# Altium footprint library PCB-Relay-Board-V1.PcbLib: 26 footprints (part 2 of 2)
Each footprint in its own frame and in the unit in brackets; x right, y up, seen from the top. Pads: shape width x height; smd on the part's side, far side on the other; paste and mask are expansions set on the pad; w line width, h text height; cw(c..) or ccw(c..) is an arc to the next point about the centre after c.
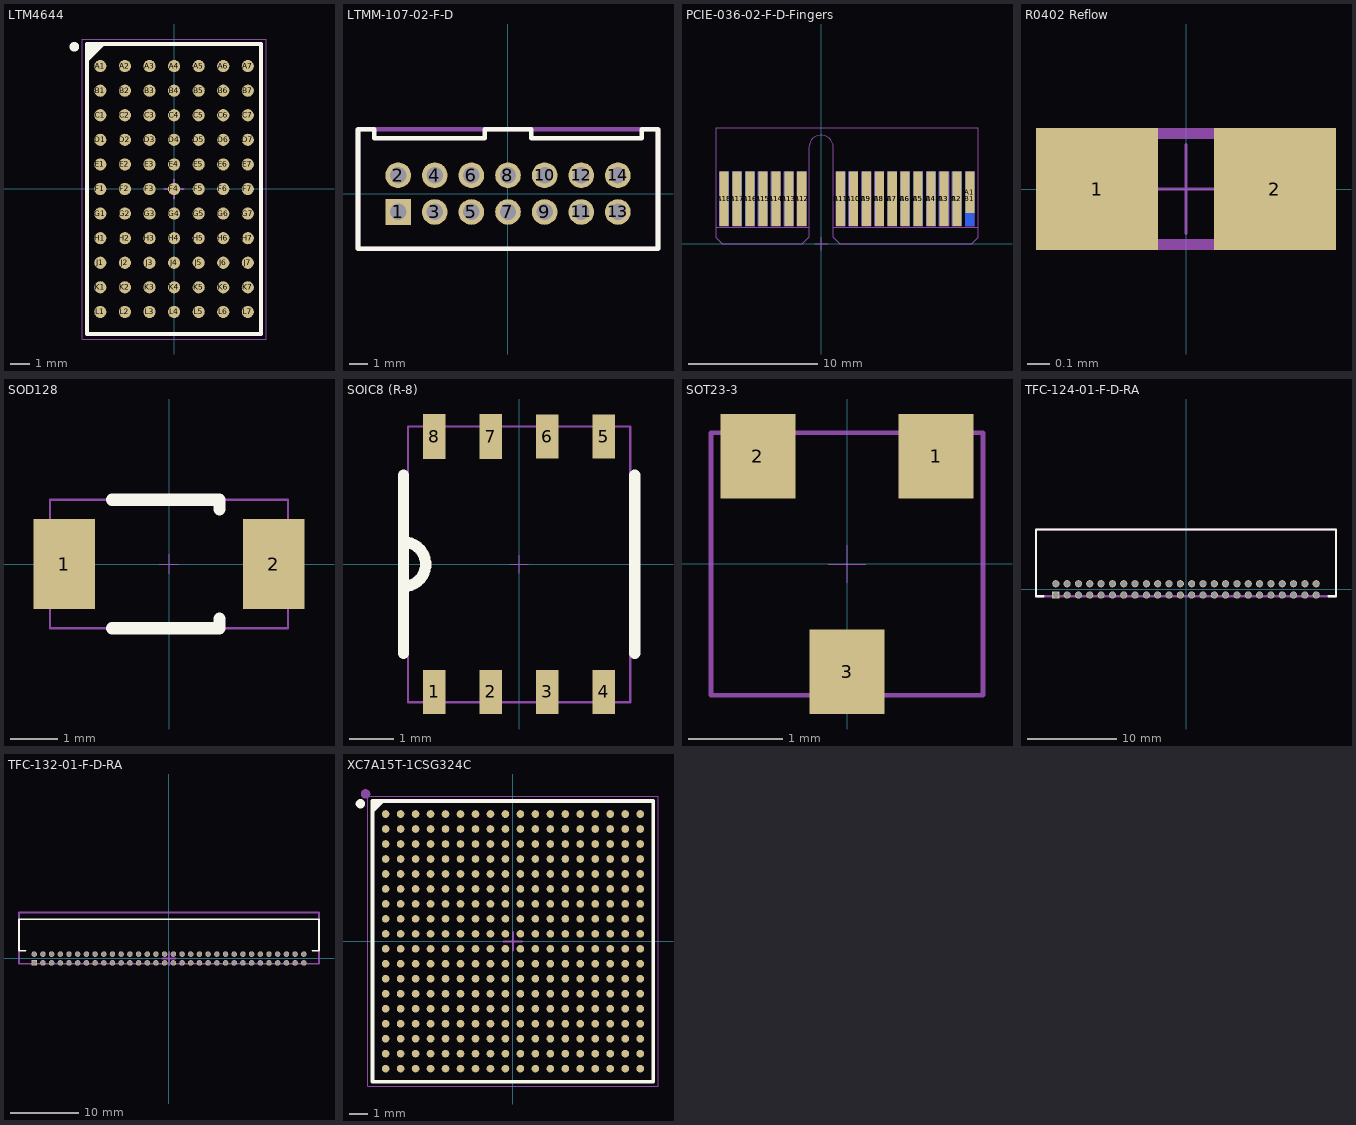
[diagram p1: the footprints below, top view; thin cyan lines are the x and y axes]

## LTM4644 [mm]
height 5.21
pads (77):
  round 0.63 smd: A1(-3.81,6.35) A2(-2.54,6.35) A3(-1.27,6.35) A4(0,6.35) A5(1.27,6.35) A6(2.54,6.35) A7(3.81,6.35) B1(-3.81,5.08) B2(-2.54,5.08) B3(-1.27,5.08) B4(0,5.08) B5(1.27,5.08) B6(2.54,5.08) B7(3.81,5.08) C1(-3.81,3.81) C2(-2.54,3.81) C3(-1.27,3.81) C4(0,3.81) C5(1.27,3.81) C6(2.54,3.81) C7(3.81,3.81) D1(-3.81,2.54) D2(-2.54,2.54) D3(-1.27,2.54) D4(0,2.54) D5(1.27,2.54) D6(2.54,2.54) D7(3.81,2.54) E1(-3.81,1.27) E2(-2.54,1.27) E3(-1.27,1.27) E4(0,1.27) E5(1.27,1.27) E6(2.54,1.27) E7(3.81,1.27) F1(-3.81,0) F2(-2.54,0) F3(-1.27,0) F4(0,0) F5(1.27,0) F6(2.54,0) F7(3.81,0) G1(-3.81,-1.27) G2(-2.54,-1.27) G3(-1.27,-1.27) G4(0,-1.27) G5(1.27,-1.27) G6(2.54,-1.27) G7(3.81,-1.27) H1(-3.81,-2.54) H2(-2.54,-2.54) H3(-1.27,-2.54) H4(0,-2.54) H5(1.27,-2.54) H6(2.54,-2.54) H7(3.81,-2.54) J1(-3.81,-3.81) J2(-2.54,-3.81) J3(-1.27,-3.81) J4(0,-3.81) J5(1.27,-3.81) J6(2.54,-3.81) J7(3.81,-3.81) K1(-3.81,-5.08) K2(-2.54,-5.08) K3(-1.27,-5.08) K4(0,-5.08) K5(1.27,-5.08) K6(2.54,-5.08) K7(3.81,-5.08) L1(-3.81,-6.35) L2(-2.54,-6.35) L3(-1.27,-6.35) L4(0,-6.35) L5(1.27,-6.35) L6(2.54,-6.35) L7(3.81,-6.35)
Top Overlay:
  circle w0.25: c-5.15,7.35 r0.125
  region: -3.671,7.5 -4.5,6.671 -4.5,7.5
  lines w0.2: -4.5,6.671 -3.671,7.5 ; -4.5,-7.5 4.5,-7.5 4.5,7.5 -4.5,7.5 -4.5,-7.5
Top Courtyard:
  lines w0.05: -4.75,-7.75 4.75,-7.75 4.75,7.75 -4.75,7.75 -4.75,-7.75
Top Component Outline:
  lines w0.1: -4.5,-7.5 -4.5,7.5 4.5,7.5 4.5,-7.5 -4.5,-7.5
Mechanical 17:
  lines w0.1: -0.5,0 0.5,0 ; 0,-0.5 0,0.5
3D body "LTM4644.STEP": height 5.11, standoff 0, extent -4.5,-7.5 4.5,7.5

## LTMM-107-02-F-D [mm] "CONN HEADER VERT 14POS 2MM (Xilinx JTAG)"
pads (14):
  rect 1.4x1.4 hole 0.9 paste+0: 1(-6,-1)
  round 1.4 hole 0.9 paste+0: 2(-6,1) 3(-4,-1) 4(-4,1) 5(-2,-1) 6(-2,1) 7(0,-1) 8(0,1) 9(2,-1) 10(2,1) 11(4,-1) 12(4,1) 13(6,-1) 14(6,1)
Top Overlay:
  lines w0.254: -8.191,-3.015 -8.191,3.523 -7.3,3.523 -7.3,3.023 -1.27,3.023 -1.27,3.523 1.27,3.523 1.27,3.023 7.3,3.023 7.3,3.523 8.191,3.523 8.191,-3.015 -8.191,-3.015
Top Courtyard:
  lines w0.254: -8.191,-3.015 -8.191,3.523 8.191,3.523 8.191,-3.015 -8.191,-3.015
3D body "LTMM-107-02-F-D.STEP": height 4.83, standoff -2.97, extent -8.191,-3.015 8.191,3.523

## PCIE-036-02-F-D-Fingers [mm] "PCB contacts for PCIE-036-02-F-D-TH"
pads (36):
  rect 0.7x3.2 smd paste-2: A1(11.5,4)
  rect 0.7x4.2 smd paste-2: A2(10.5,3.5) A3(9.5,3.5) A4(8.5,3.5) A5(7.5,3.5) A6(6.5,3.5) A7(5.5,3.5) A8(4.5,3.5) A9(3.5,3.5) A10(2.5,3.5) A11(1.5,3.5) A12(-1.5,3.5) A13(-2.5,3.5) A14(-3.5,3.5) A15(-4.5,3.5) A16(-5.5,3.5) A17(-6.5,3.5) A18(-7.5,3.5)
  rect 0.7x4.2 smd far side paste-2: B1(11.5,3.5) B2(10.5,3.5) B3(9.5,3.5) B4(8.5,3.5) B5(7.5,3.5) B6(6.5,3.5) B7(5.5,3.5) B8(4.5,3.5) B9(3.5,3.5) B10(2.5,3.5) B11(1.5,3.5) B12(-1.5,3.5) B13(-2.5,3.5) B14(-3.5,3.5) B15(-4.5,3.5) B16(-5.5,3.5) B17(-6.5,3.5) B18(-7.5,3.5)
Mechanical 17:
  lines w0.013: -8.15,1.3 -0.95,1.3 ; -0.5,0 0.5,0 ; 0,-0.5 0,0.5 ; 0.95,1.3 12.15,1.3 ; -8.15,0.5 -7.65,0 -1.45,0 -0.95,0.5 -0.95,7.46 cw(c0,7.46) 0.95,7.46 0.95,0.5 1.45,0 11.65,0 12.15,0.5 12.15,9 -8.15,9 -8.15,0.5 ; -7.85,1.4 -7.15,1.4 -7.15,5.6 -7.85,5.6 -7.85,1.4 ; -6.85,1.4 -6.15,1.4 -6.15,5.6 -6.85,5.6 -6.85,1.4 ; -5.85,1.4 -5.15,1.4 -5.15,5.6 -5.85,5.6 -5.85,1.4 ; -4.85,1.4 -4.15,1.4 -4.15,5.6 -4.85,5.6 -4.85,1.4 ; -3.85,1.4 -3.15,1.4 -3.15,5.6 -3.85,5.6 -3.85,1.4 ; -2.85,1.4 -2.15,1.4 -2.15,5.6 -2.85,5.6 -2.85,1.4 ; -1.85,1.4 -1.15,1.4 -1.15,5.6 -1.85,5.6 -1.85,1.4 ; 1.15,1.4 1.15,5.6 1.85,5.6 1.85,1.4 1.15,1.4 ; 2.15,1.4 2.85,1.4 2.85,5.6 2.15,5.6 2.15,1.4 ; 3.15,1.4 3.85,1.4 3.85,5.6 3.15,5.6 3.15,1.4 ; 4.15,1.4 4.85,1.4 4.85,5.6 4.15,5.6 4.15,1.4 ; 5.15,1.4 5.85,1.4 5.85,5.6 5.15,5.6 5.15,1.4 ; 6.15,1.4 6.85,1.4 6.85,5.6 6.15,5.6 6.15,1.4 ; 7.15,1.4 7.85,1.4 7.85,5.6 7.15,5.6 7.15,1.4 ; 8.15,1.4 8.85,1.4 8.85,5.6 8.15,5.6 8.15,1.4 ; 9.15,1.4 9.85,1.4 9.85,5.6 9.15,5.6 9.15,1.4 ; 10.15,1.4 10.85,1.4 10.85,5.6 10.15,5.6 10.15,1.4 ; 11.15,1.4 11.85,1.4 11.85,5.6 11.15,5.6 11.15,1.4

## R0402 Reflow [mm] "SMT Resistor 0402 Reflow Soldering"
pads (2):
  rect 0.55x0.55 smd: 1(-0.4,0) 2(0.4,0)
Top Solder:
  rectangle: -0.3,-0.377 0.3,0.377
Top Courtyard:
  lines w0.05: -0.5,-0.25 -0.5,0.25 0.5,0.25 0.5,-0.25 -0.5,-0.25
Mechanical 17:
  lines w0.013: -0.2,0 0.2,0 ; 0,-0.2 0,0.2
3D body "R0402.STEP": height 0.35, standoff 0, extent -0.5,-0.25 0.5,0.25

## SOD128 [mm] "PMEG4050EP,115"
pads (2):
  rect 1.3x1.9 smd: 1(-2.2,0) 2(2.2,0)
Top Overlay:
  lines w0.254: -1.2,-1.35 1.06,-1.35 1.06,-1.15 ; -1.2,1.35 1.06,1.35 1.06,1.15
Top Courtyard:
  lines w0.05: -2.5,-1.35 2.5,-1.35 2.5,1.35 -2.5,1.35 -2.5,-1.35
Mechanical 17:
  lines w0.013: -0.2,0 0.2,0 ; 0,-0.2 0,0.2
3D body "Schottky_Diode_SOD128.step": height 1.1, standoff -0.01, extent -2.5,-1.35 2.5,1.35

## SOIC8 (R-8) [mil] "Generic 8 lead SOIC Narrow Body"
height 69
pads (8):
  rect 20x39 smd: 1(-75,-113) 2(-25,-113) 3(25,-113) 4(75,-113) 5(75,113) 6(25,113)
  rect 20x40 smd: 7(-25,113) 8(-75,113)
Top Overlay:
  lines w10: -102.36,-78.74 -102.36,78.74 ; -102.36,-19.68 ccw(c-102.36,0) -102.36,19.68 ; 102.36,-78.74 102.36,78.74
Top Courtyard:
  lines w1.97: -98.42,-122.04 98.43,-122.04 98.43,122.06 -98.42,122.06 -98.42,-122.04
Mechanical 17:
  lines w0.51: -7.87,0 7.87,0 ; 0,-7.87 0,7.87
3D body "SOIC8N.step": height 68.9, standoff 0, extent -98.42,-122.04 98.43,122.06

## SOT23-3 [mm]
pads (3):
  rect 0.8x0.9 smd mask+0.1: 1(0.95,1.15) 2(-0.95,1.15) 3(0,-1.15)
Top Courtyard:
  lines w0.05: -1.45,-1.4 1.45,-1.4 1.45,1.4 -1.45,1.4 -1.45,-1.4
Mechanical 17:
  lines w0.013: -0.2,0 0.2,0 ; 0,-0.2 0,0.2
3D body "SOT23-3.step": height 1.3, standoff 0, extent -1.45,-1.4 1.45,1.4

## TFC-124-01-F-D-RA [mm] "48 pin box header right angled"
pads (48):
  rect 0.8x0.8 hole 0.635 paste+0: 1(-14.605,-0.635)
  round 0.8 hole 0.635 paste+0: 2(-14.605,0.635) 3(-13.335,-0.635) 4(-13.335,0.635) 5(-12.065,-0.635) 6(-12.065,0.635) 7(-10.795,-0.635) 8(-10.795,0.635) 9(-9.525,-0.635) 10(-9.525,0.635) 11(-8.255,-0.635) 12(-8.255,0.635) 13(-6.985,-0.635) 14(-6.985,0.635) 15(-5.715,-0.635) 16(-5.715,0.635) 17(-4.445,-0.635) 18(-4.445,0.635) 19(-3.175,-0.635) 20(-3.175,0.635) 21(-1.905,-0.635) 22(-1.905,0.635) 23(-0.635,-0.635) 24(-0.635,0.635) 25(0.635,-0.635) 26(0.635,0.635) 27(1.905,-0.635) 28(1.905,0.635) 29(3.175,-0.635) 30(3.175,0.635) 31(4.445,-0.635) 32(4.445,0.635) 33(5.715,-0.635) 34(5.715,0.635) 35(6.985,-0.635) 36(6.985,0.635) 37(8.255,-0.635) 38(8.255,0.635) 39(9.525,-0.635) 40(9.525,0.635) 41(10.795,-0.635) 42(10.795,0.635) 43(12.065,-0.635) 44(12.065,0.635) 45(13.335,-0.635) 46(13.335,0.635) 47(14.605,-0.635) 48(14.605,0.635)
Top Overlay:
  lines w0.254: -16,-0.762 -16.827,-0.762 -16.827,6.731 16.827,6.731 16.827,-0.762 16,-0.762
Top Courtyard:
  lines w0.254: -16.827,-0.762 16.827,-0.762 16.827,6.731 -16.827,6.731 -16.827,-0.762
3D body "TFC-124-01-F-D-RA.STEP": height 5.71, standoff -1.91, extent -16.827,-0.762 16.827,6.731

## TFC-132-01-F-D-RA [mm] "64 pin box header right angled"
pads (64):
  rect 0.8x0.8 hole 0.635 paste+0: 1(-19.685,-0.635)
  round 0.8 hole 0.635 paste+0: 2(-19.685,0.635) 3(-18.415,-0.635) 4(-18.415,0.635) 5(-17.145,-0.635) 6(-17.145,0.635) 7(-15.875,-0.635) 8(-15.875,0.635) 9(-14.605,-0.635) 10(-14.605,0.635) 11(-13.335,-0.635) 12(-13.335,0.635) 13(-12.065,-0.635) 14(-12.065,0.635) 15(-10.795,-0.635) 16(-10.795,0.635) 17(-9.525,-0.635) 18(-9.525,0.635) 19(-8.255,-0.635) 20(-8.255,0.635) 21(-6.985,-0.635) 22(-6.985,0.635) 23(-5.715,-0.635) 24(-5.715,0.635) 25(-4.445,-0.635) 26(-4.445,0.635) 27(-3.175,-0.635) 28(-3.175,0.635) 29(-1.905,-0.635) 30(-1.905,0.635) 31(-0.635,-0.635) 32(-0.635,0.635) 33(0.635,-0.635) 34(0.635,0.635) 35(1.905,-0.635) 36(1.905,0.635) 37(3.175,-0.635) 38(3.175,0.635) 39(4.445,-0.635) 40(4.445,0.635) 41(5.715,-0.635) 42(5.715,0.635) 43(6.985,-0.635) 44(6.985,0.635) 45(8.255,-0.635) 46(8.255,0.635) 47(9.525,-0.635) 48(9.525,0.635)
  round 0.8 hole 0.635 paste-1: 49(10.795,-0.635) 50(10.795,0.635) 51(12.065,-0.635) 52(12.065,0.635) 53(13.335,-0.635) 54(13.335,0.635) 55(14.605,-0.635) 56(14.605,0.635) 57(15.875,-0.635) 58(15.875,0.635) 59(17.145,-0.635) 60(17.145,0.635) 61(18.415,-0.635) 62(18.415,0.635) 63(19.685,-0.635) 64(19.685,0.635)
Top Overlay:
  lines w0.254: -20.955,1.143 -21.907,1.143 -21.907,5.731 21.908,5.731 21.908,1.143 20.955,1.143
Top Courtyard:
  lines w0.254: -21.907,-0.762 -21.907,6.731 21.908,6.731 21.908,-0.762 -21.907,-0.762
Mechanical 17:
  lines w0.254: -1,0 1,0 ; 0,-1 0,1
3D body "TFC-132-01-F-D-RA.STEP": height 5.71, standoff -1.91, extent -21.907,-0.762 21.908,6.731

## XC7A15T-1CSG324C [mm] "BGA, 324-Leads, Body 15.00x15.00mmx1.50mm, Pitch 0.80mm"
height 1.5
pads (324):
  round 0.41 smd: A1(-6.8,6.8) A2(-6,6.8) A3(-5.2,6.8) A4(-4.4,6.8) A5(-3.6,6.8) A6(-2.8,6.8) A7(-2,6.8) A8(-1.2,6.8) A9(-0.4,6.8) A10(0.4,6.8) A11(1.2,6.8) A12(2,6.8) A13(2.8,6.8) A14(3.6,6.8) A15(4.4,6.8) A16(5.2,6.8) A17(6,6.8) A18(6.8,6.8) B1(-6.8,6) B2(-6,6) B3(-5.2,6) B4(-4.4,6) B5(-3.6,6) B6(-2.8,6) B7(-2,6) B8(-1.2,6) B9(-0.4,6) B10(0.4,6) B11(1.2,6) B12(2,6) B13(2.8,6) B14(3.6,6) B15(4.4,6) B16(5.2,6) B17(6,6) B18(6.8,6) C1(-6.8,5.2) C2(-6,5.2) C3(-5.2,5.2) C4(-4.4,5.2) C5(-3.6,5.2) C6(-2.8,5.2) C7(-2,5.2) C8(-1.2,5.2) C9(-0.4,5.2) C10(0.4,5.2) C11(1.2,5.2) C12(2,5.2) C13(2.8,5.2) C14(3.6,5.2) C15(4.4,5.2) C16(5.2,5.2) C17(6,5.2) C18(6.8,5.2) D1(-6.8,4.4) D2(-6,4.4) D3(-5.2,4.4) D4(-4.4,4.4) D5(-3.6,4.4) D6(-2.8,4.4) D7(-2,4.4) D8(-1.2,4.4) D9(-0.4,4.4) D10(0.4,4.4) D11(1.2,4.4) D12(2,4.4) D13(2.8,4.4) D14(3.6,4.4) D15(4.4,4.4) D16(5.2,4.4) D17(6,4.4) D18(6.8,4.4) E1(-6.8,3.6) E2(-6,3.6) E3(-5.2,3.6) E4(-4.4,3.6) E5(-3.6,3.6) E6(-2.8,3.6) E7(-2,3.6) E8(-1.2,3.6) E9(-0.4,3.6) E10(0.4,3.6) E11(1.2,3.6) E12(2,3.6) E13(2.8,3.6) E14(3.6,3.6) E15(4.4,3.6) E16(5.2,3.6) E17(6,3.6) E18(6.8,3.6) F1(-6.8,2.8) F2(-6,2.8) F3(-5.2,2.8) F4(-4.4,2.8) F5(-3.6,2.8) F6(-2.8,2.8) F7(-2,2.8) F8(-1.2,2.8) F9(-0.4,2.8) F10(0.4,2.8) F11(1.2,2.8) F12(2,2.8) F13(2.8,2.8) F14(3.6,2.8) F15(4.4,2.8) F16(5.2,2.8) F17(6,2.8) F18(6.8,2.8) G1(-6.8,2) G2(-6,2) G3(-5.2,2) G4(-4.4,2) G5(-3.6,2) G6(-2.8,2) G7(-2,2) G8(-1.2,2) G9(-0.4,2) G10(0.4,2) G11(1.2,2) G12(2,2) G13(2.8,2) G14(3.6,2) G15(4.4,2) G16(5.2,2) G17(6,2) G18(6.8,2) H1(-6.8,1.2) H2(-6,1.2) H3(-5.2,1.2) H4(-4.4,1.2) H5(-3.6,1.2) H6(-2.8,1.2) H7(-2,1.2) H8(-1.2,1.2) H9(-0.4,1.2) H10(0.4,1.2) H11(1.2,1.2) H12(2,1.2) H13(2.8,1.2) H14(3.6,1.2) H15(4.4,1.2) H16(5.2,1.2) H17(6,1.2) H18(6.8,1.2) J1(-6.8,0.4) J2(-6,0.4) J3(-5.2,0.4) J4(-4.4,0.4) J5(-3.6,0.4) J6(-2.8,0.4) J7(-2,0.4) J8(-1.2,0.4) J9(-0.4,0.4) J10(0.4,0.4) J11(1.2,0.4) J12(2,0.4) J13(2.8,0.4) J14(3.6,0.4) J15(4.4,0.4) J16(5.2,0.4) J17(6,0.4) J18(6.8,0.4) K1(-6.8,-0.4) K2(-6,-0.4) K3(-5.2,-0.4) K4(-4.4,-0.4) K5(-3.6,-0.4) K6(-2.8,-0.4) K7(-2,-0.4) K8(-1.2,-0.4) K9(-0.4,-0.4) K10(0.4,-0.4) K11(1.2,-0.4) K12(2,-0.4) K13(2.8,-0.4) K14(3.6,-0.4) K15(4.4,-0.4) K16(5.2,-0.4) K17(6,-0.4) K18(6.8,-0.4) L1(-6.8,-1.2) L2(-6,-1.2) L3(-5.2,-1.2) L4(-4.4,-1.2) L5(-3.6,-1.2) L6(-2.8,-1.2) L7(-2,-1.2) L8(-1.2,-1.2) L9(-0.4,-1.2) L10(0.4,-1.2) L11(1.2,-1.2) L12(2,-1.2) L13(2.8,-1.2) L14(3.6,-1.2) L15(4.4,-1.2) L16(5.2,-1.2) L17(6,-1.2) L18(6.8,-1.2) M1(-6.8,-2) M2(-6,-2) M3(-5.2,-2) M4(-4.4,-2) M5(-3.6,-2) M6(-2.8,-2) M7(-2,-2) M8(-1.2,-2) M9(-0.4,-2) M10(0.4,-2) M11(1.2,-2) M12(2,-2) M13(2.8,-2) M14(3.6,-2) M15(4.4,-2) M16(5.2,-2) M17(6,-2) M18(6.8,-2) N1(-6.8,-2.8) N2(-6,-2.8) N3(-5.2,-2.8) N4(-4.4,-2.8) N5(-3.6,-2.8) N6(-2.8,-2.8) N7(-2,-2.8) N8(-1.2,-2.8) N9(-0.4,-2.8) N10(0.4,-2.8) N11(1.2,-2.8) N12(2,-2.8) N13(2.8,-2.8) N14(3.6,-2.8) N15(4.4,-2.8) N16(5.2,-2.8) N17(6,-2.8) N18(6.8,-2.8) P1(-6.8,-3.6) P2(-6,-3.6) P3(-5.2,-3.6) P4(-4.4,-3.6) P5(-3.6,-3.6) P6(-2.8,-3.6) P7(-2,-3.6) P8(-1.2,-3.6) P9(-0.4,-3.6) P10(0.4,-3.6) P11(1.2,-3.6) P12(2,-3.6) P13(2.8,-3.6) P14(3.6,-3.6) P15(4.4,-3.6) P16(5.2,-3.6) P17(6,-3.6) P18(6.8,-3.6) R1(-6.8,-4.4) R2(-6,-4.4) R3(-5.2,-4.4) R4(-4.4,-4.4) R5(-3.6,-4.4) R6(-2.8,-4.4) R7(-2,-4.4) R8(-1.2,-4.4) R9(-0.4,-4.4) R10(0.4,-4.4) R11(1.2,-4.4) R12(2,-4.4) R13(2.8,-4.4) R14(3.6,-4.4) R15(4.4,-4.4) R16(5.2,-4.4) R17(6,-4.4) R18(6.8,-4.4) T1(-6.8,-5.2) T2(-6,-5.2) T3(-5.2,-5.2) T4(-4.4,-5.2) T5(-3.6,-5.2) T6(-2.8,-5.2) T7(-2,-5.2) T8(-1.2,-5.2) T9(-0.4,-5.2) T10(0.4,-5.2) T11(1.2,-5.2) T12(2,-5.2) T13(2.8,-5.2) T14(3.6,-5.2) T15(4.4,-5.2) T16(5.2,-5.2) T17(6,-5.2) T18(6.8,-5.2) U1(-6.8,-6) U2(-6,-6) U3(-5.2,-6) U4(-4.4,-6) U5(-3.6,-6) U6(-2.8,-6) U7(-2,-6) U8(-1.2,-6) U9(-0.4,-6) U10(0.4,-6) U11(1.2,-6) U12(2,-6) U13(2.8,-6) U14(3.6,-6) U15(4.4,-6) U16(5.2,-6) U17(6,-6) U18(6.8,-6) V1(-6.8,-6.8) V2(-6,-6.8) V3(-5.2,-6.8) V4(-4.4,-6.8) V5(-3.6,-6.8) V6(-2.8,-6.8) V7(-2,-6.8) V8(-1.2,-6.8) V9(-0.4,-6.8) V10(0.4,-6.8) V11(1.2,-6.8) V12(2,-6.8) V13(2.8,-6.8) V14(3.6,-6.8) V15(4.4,-6.8) V16(5.2,-6.8) V17(6,-6.8) V18(6.8,-6.8)
Top Overlay:
  circle w0.25: c-8.15,7.35 r0.125
  region: -6.956,7.5 -7.5,6.956 -7.5,7.5
  lines w0.2: -7.5,6.956 -6.956,7.5 ; -7.5,-7.5 7.5,-7.5 7.5,7.5 -7.5,7.5 -7.5,-7.5
Top Courtyard:
  lines w0.05: -7.75,-7.75 7.75,-7.75 7.75,7.75 -7.75,7.75 -7.75,-7.75
Top Component Outline:
  circle w0.254: c-7.874,7.874 r0.127
Mechanical 17:
  lines w0.1: -0.5,0 0.5,0 ; 0,-0.5 0,0.5
3D body "XC7A15T-1CSG324C.STEP": height 1.5, standoff 0, extent -7.5,-7.5 7.5,7.5